# Altium footprint library SLW-913535-2A-SMT.PcbLib: 1 footprints
Each footprint in its own frame and in the unit in brackets; x right, y up, seen from the top. Pads: shape width x height; smd on the part's side, far side on the other; paste and mask are expansions set on the pad; w line width, h text height; cw(c..) or ccw(c..) is an arc to the next point about the centre after c.
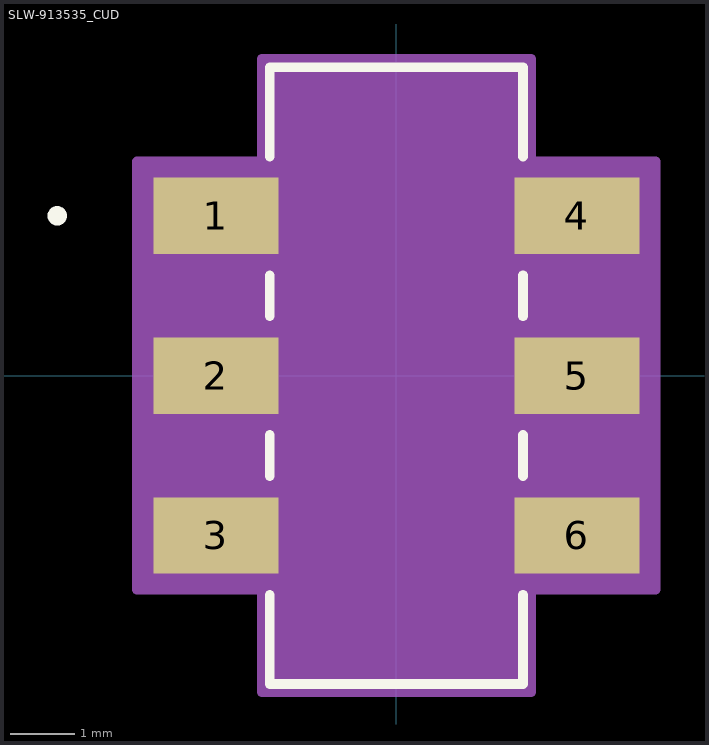
[diagram p0: the footprint, top view; thin cyan lines are the x and y axes]

## SLW-913535_CUD [mil]
pads (6):
  rect 77x47 smd paste+0 mask+0: 1(-111.22,98.43) 2(-111.22,0) 3(-111.22,-98.43) 4(111.22,98.43) 5(111.22,0) 6(111.22,-98.43)
Top Overlay:
  circle w6: c-208.93,98.43 r3
  lines w6: -78,-135.03 -78,-190 78,-190 78,-135.03 ; -78,-61.83 -78,-36.6 ; -78,36.6 -78,61.83 ; -78,135.03 -78,190 78,190 78,135.03 ; 78,-61.83 78,-36.6 ; 78,36.6 78,61.83
Mechanical 13:
  circle w0: c-63,98.43 r1.5
  lines w0: -12,185 ccw(c0,185) 12,185
  lines w1: -73,-185 -73,185 73,185 73,-185 -73,-185
Mechanical 15:
  region: -83,-131.93 -159.72,-131.93 -159.72,131.93 -83,131.93 -83,195 83,195 83,131.93 159.72,131.93 159.72,-131.93 83,-131.93 83,-195 -83,-195
  lines w6: -159.72,-131.93 -83,-131.93 -83,-195 83,-195 83,-131.93 159.72,-131.93 159.72,131.93 83,131.93 83,195 -83,195 -83,131.93 -159.72,131.93 -159.72,-131.93
3D body "SLW-913535_CUD.step": height 217.09, standoff 0, extent -135.94,-185 135.94,185